# Altium schematic symbol library PIC32ETH.SchLib: 42 symbols
Pins are listed as number, name and electrical type; pins without a type are passive.

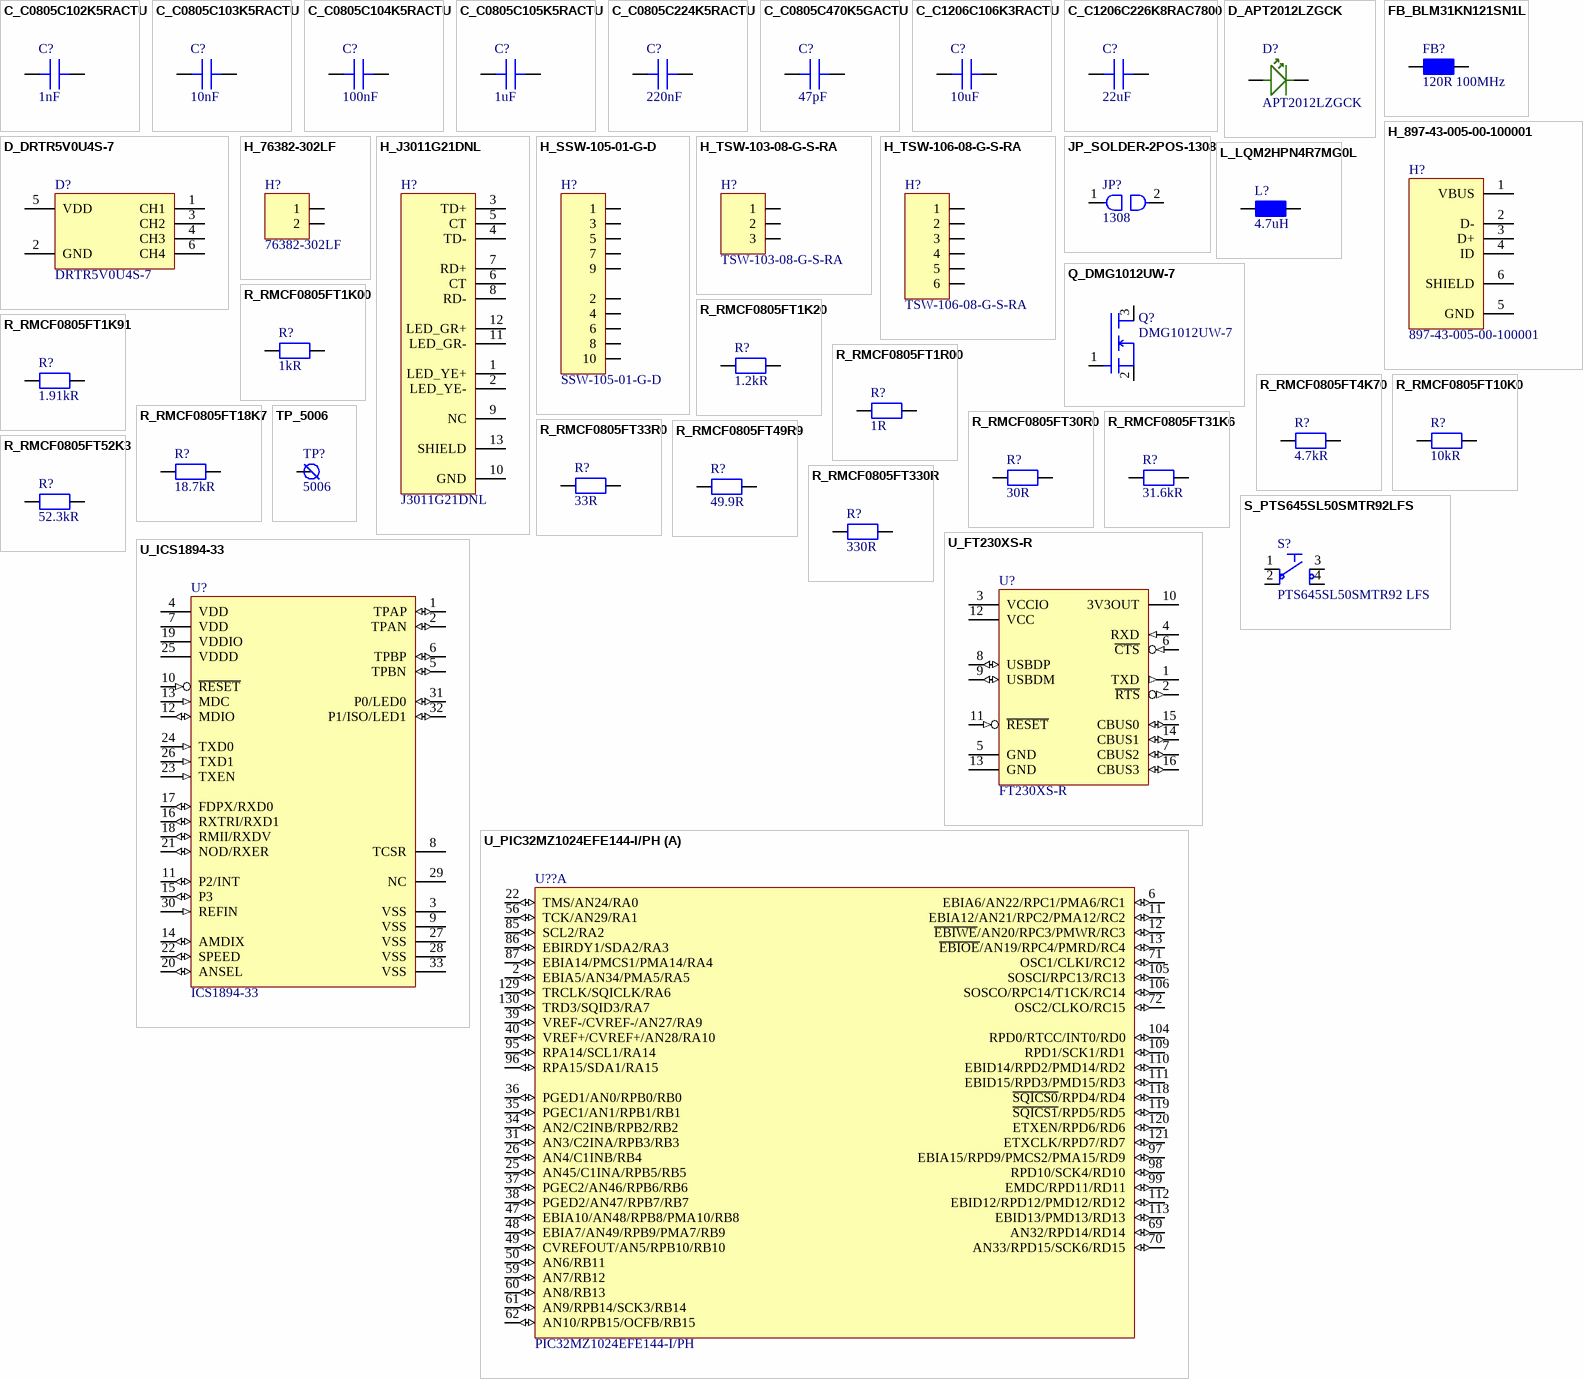
[diagram p0: symbols C_C0805C102K5RACTU to U_PIC32MZ1024EFE144-I/PH]

## C_C0805C102K5RACTU
designator C?, comment 1nF
C CERAMIC 1nF 50V 10% 2012; Manufacturer: Kemet; Part Number: C0805C102K5RACTU; Dielectric: X7R; Tolerance: +/-10%; Datasheet Url: https://content.kemet.com/datasheets/KEM_C1002_X7R_SMD.pdf; Mounting: SMT; Package: 2012; Price: 0.11; Price Currency: CHF; Supplier 1: Digi-Key; Capacitance: 1nF; Voltage: 50V; Supplier Part Number 1: 399-1147-1-ND; Esr: n/a; Pin Count: 2; Temperature Range: -55degC to 125degC
footprint C_CHIP2012N (Chip Capacitor, 2-Leads, Body 2.00x1.25mm, IPC Medium Density)
pins: 1, 1, 2, 2

## C_C0805C103K5RACTU
designator C?, comment 10nF
C CERAMIC 10nF 50V 10% 2012; Manufacturer: Kemet; Part Number: C0805C103K5RACTU; Dielectric: X7R; Tolerance: +/-10%; Datasheet Url: https://content.kemet.com/datasheets/KEM_C1002_X7R_SMD.pdf; Mounting: SMT; Package: 2012; Price: 0.18; Price Currency: CHF; Supplier 1: Digi-Key; Capacitance: 10nF; Voltage: 50V; Supplier Part Number 1: 399-1158-1-ND; Esr: n/a; Pin Count: 2; Temperature Range: -55degC to 125degC
footprint C_CHIP2012N (Chip Capacitor, 2-Leads, Body 2.00x1.25mm, IPC Medium Density)
pins: 1, 2

## C_C0805C104K5RACTU
designator C?, comment 100nF
C CERAMIC 100nF 50V 10% 2012; Manufacturer: Kemet; Part Number: C0805C104K5RACTU; Dielectric: X7R; Tolerance: +/-10%; Datasheet Url: https://content.kemet.com/datasheets/KEM_C1002_X7R_SMD.pdf; Mounting: SMT; Package: 2012; Price: 0.23; Price Currency: CHF; Supplier 1: Digi-Key; Capacitance: 100nF; Voltage: 50V; Supplier Part Number 1: 399-1170-1-ND; Esr: n/a; Pin Count: 2; Temperature Range: -55degC to 125degC
footprint C_CHIP2012N (Chip Capacitor, 2-Leads, Body 2.00x1.25mm, IPC Medium Density)
pins: 1, 2

## C_C0805C105K5RACTU
designator C?, comment 1uF
C CERAMIC 1uF 50V 10% 2012; Manufacturer: Kemet; Part Number: C0805C105K5RACTU; Dielectric: X7R; Tolerance: +/-10%; Datasheet Url: https://content.kemet.com/datasheets/KEM_C1002_X7R_SMD.pdf; Mounting: SMT; Package: 2012; Price: 0.32; Price Currency: CHF; Supplier 1: Digi-Key; Capacitance: 1uF; Voltage: 50V; Supplier Part Number 1: 399-7409-1-ND; Esr: n/a; Pin Count: 2; Temperature Range: -55degC to 125degC
footprint C_CHIP2012N (Chip Capacitor, 2-Leads, Body 2.00x1.25mm, IPC Medium Density)
pins: 1, 2

## C_C0805C224K5RACTU
designator C?, comment 220nF
C CERAMIC 220nF 50V 10% 2012; Manufacturer: Kemet; Part Number: C0805C224K5RACTU; Dielectric: X7R; Tolerance: +/-10%; Datasheet Url: https://content.kemet.com/datasheets/KEM_C1002_X7R_SMD.pdf; Mounting: SMT; Package: 2012; Price: 0.16; Price Currency: CHF; Supplier 1: Digi-Key; Capacitance: 220nF; Voltage: 50V; Supplier Part Number 1: 399-3491-1-ND; Esr: n/a; Pin Count: 2; Temperature Range: -55degC to 125degC
footprint C_CHIP2012N (Chip Capacitor, 2-Leads, Body 2.00x1.25mm, IPC Medium Density)
pins: 1, 2

## C_C0805C470K5GACTU
designator C?, comment 47pF
C CERAMIC 47pF 50V 10% 2012; Manufacturer: Kemet; Part Number: C0805C470K5GACTU; Dielectric: C0G; Tolerance: +/-10%; Datasheet Url: https://api.kemet.com/component-edge/download/datasheet/C0805C470K5GACTU.pdf; Mounting: SMT; Package: 2012; Price: 0.11; Price Currency: CHF; Supplier 1: Digi-Key; Capacitance: 47pF; Voltage: 50V; Supplier Part Number 1: 399-8081-1-ND; Esr: n/a; Pin Count: 2; Temperature Range: -55degC to 125degC
footprint C_CHIP2012N (Chip Capacitor, 2-Leads, Body 2.00x1.25mm, IPC Medium Density)
pins: 1, 2

## C_C1206C106K3RACTU
designator C?, comment 10uF
C CERAMIC 10uF 25V 10% 3216; Part Number: C1206C106K3RACTU; Manufacturer: Kemet; Dielectric: X7R; Tolerance: +/-10%; Package: 3216; Supplier 1: Digi-Key; Temperature Range: -55degC to 125degC; Datasheet Url: https://content.kemet.com/datasheets/KEM_C1002_X7R_SMD.pdf; Mounting: SMT; Price: 0.62; Price Currency: CHF; Note: *; Capacitance: 10uF; Voltage: 25V; Pin Count: 2; Esr: n/a; Supplier Part Number 1: 399-7442-1-ND
footprint C_CHIP3216N (Chip Capacitor, 2-Leads, Body 3.20x1.60mm, IPC Medium Density)
pins: 1, 2

## C_C1206C226K8RAC7800
designator C?, comment 22uF
C CERAMIC 22uF 10V 10% 3216; Part Number: C1206C226K8RAC7800; Manufacturer: Kemet; Dielectric: X7R; Tolerance: +/-10%; Package: 3216; Supplier 1: Digi-Key; Temperature Range: -55degC to 125degC; Datasheet Url: https://api.kemet.com/component-edge/download/datasheet/C1206C226K8RAC7800.pdf; Mounting: SMT; Price: 0.65; Price Currency: CHF; Note: *; Capacitance: 22uF; Voltage: 10V; Pin Count: 2; Esr: n/a; Supplier Part Number 1: 399-11947-1-ND
footprint C_CHIP3216N (Chip Capacitor, 2-Leads, Body 3.20x1.60mm, IPC Medium Density)
pins: 1, 2

## D_APT2012LZGCK
designator D?, comment APT2012LZGCK
D LED GREEN CLEAR 2.65V 2mA 2012; Manufacturer: Kingbright; Voltage Reverse: 5V; Current Reverse: 50uA; Power: 102.5mW; Datasheet URL: http://www.kingbrightusa.com/images/catalog/SPEC/APT2012LZGCK.pdf; Mounting: SMT; Package: 2012; Part Number: APT2012LZGCK; Price: 0.55; Price Currency: CHF; Supplier 1: Digi-Key; Supplier Part Number 1: 754-1939-1-ND; Temperature Range: -40degC to 85degC; Pin Count: 2; Current Forward: 2mA; Voltage Forward: 2.65V; Color: Green; Lens Transparency: Clear
footprint D_LEDCHIP2012N (Chip LED, 2-Leads, Body 3.20x1.60mm, IPC Medium Density)
pins: 1, 2

## D_DRTR5V0U4S-7
designator D?, comment DRTR5V0U4S-7
D TVS 5.5V 6V 200mW SOT-363; Manufacturer: Diodes Incorporated; Datasheet URL: https://www.diodes.com/assets/Datasheets/DRTR5V0U4S.pdf; Mounting: SMT; Package: SOT-363; Part Number: DRTR5V0U4S-7; Price: 0.39; Price Currency: CHF; Supplier 1: Digi-Key; Supplier Part Number 1: DRTR5V0U4S-7DICT-ND; Temperature Range: -65degC to 150degC; Pin Count: 6; Power: 200mW; Voltage Breakdown: 6V; Voltage Reverse Standoff: 5.5V
footprint D_SOT65P210X100-6N (SOT-23, 6-Leads, Body 2.15x2.10mm, Pitch 0.65mm, IPC Medium Density)
pins: 1 CH1, 2 GND (power), 3 CH2, 4 CH3, 5 VDD (power), 6 CH4

## FB_BLM31KN121SN1L
designator FB?, comment 120R 100MHz
FB 120R 100MHz 6A 3216; Manufacturer: Murata Electronics; Part Number: BLM31KN121SN1L; Resistance: 9mR; Datasheet Url: https://www.murata.com/en-us/products/productdata/8801529331742/ENFA0091.pdf; Mounting: SMT; Package: 3216; Price: 0.29; Price Currency: CHF; Supplier 1: Digi-Key; Supplier Part Number 1: 490-16524-1-ND; Temperature Range: -55degC to 125degC; Pin Count: 2; Current: 6A; Impedance: 120R 100MHz
footprint FB_CHIP3216N (Chip Ferrite Bead, 2-Leads, Body 3.20x1.60mm, IPC Medium Density)
pins: 1, 2

## H_897-43-005-00-100001
designator H?, comment 897-43-005-00-100001
H USB SOCKET 1PORT B-MINI ANGLE SMT; Manufacturer: Mill-Max Manufacturing Corp.; Mating Cycles: 5000; Current: 1A; Voltage: 30VAC; Ports: 1; Datasheet URL: http://www.farnell.com/datasheets/1734713.pdf?_ga=2.223747291.1932968036.1561574157-1154557334.1561574157&_gac=1.227804655.1561574157.CjwKCAjwr8zoBRA0EiwANmvpYNQHn877f_ACzLNOCpO9cVZHUYePGKu6J6mtcTAYQ9aGUVPIBV0ilRoC6_EQAvD_BwE; Mounting: SMT; Package: n/a; Part Number: 897-43-005-00-100001; Price: 1.21; Price Currency: CHF; Supplier 1: Digi-Key; Supplier Part Number 1: ED90341CT-ND; Pin Count: 6; Temperature Range: n/a; Header Type: Socket; Orientation: Angle; Usb Type: B-Mini
footprint H_897-43-005-00-100001
pins: 1 VBUS, 2 D-, 3 D+, 4 ID, 5 GND, 6 SHIELD

## H_76382-302LF
designator H?, comment 76382-302LF
H GENERAL HEADER 2POS 1ROW 2.54mm ANGLE THT; Manufacturer: Amphenol ICC; Current: 3A; Mating Cycles: 1000; Voltage: 1000V; Positions: 2; Rows: 1; Datasheet URL: https://cdn.amphenol-icc.com/media/wysiwyg/files/drawing/76382.pdf; Mounting: THT; Package: n/a; Part Number: 76382-302LF; Price: 0.71; Price Currency: CHF; Supplier 1: Digi-Key; Supplier Part Number 1: 609-1278-ND; Pin Count: 2; Temperature Range: -40degC to 125degC; Header Type: Header; Orientation: Angle; Spacing: 2.54mm
footprint H_76382-302LF (CONN HEADER R/A 2POS 2.54MM)
pins: 1, 2

## H_J3011G21DNL
designator H?, comment J3011G21DNL
H RJ45 SOCKET 1PORT ANGLE SMT; Manufacturer: Pulse; Ports: 1; Part Number: J3011G21DNL; Price Currency: CHF; Current: n/a; Datasheet URL: https://productfinder.pulseeng.com/doc_type/WEB301/doc_num/J409/doc_part/J409.pdf; Mating Cycles: n/a; Mounting: SMT; Package: n/a; Pin Count: 13; Price: 8.68; Temperature Range: 0°C to 70°C; Voltage: n/a; Header Type: Socket; Orientation: Angle; Supplier 1: Digi-Key; Supplier Part Number 1: 553-1491-ND
footprint H_J3011G21DNL (H RJ45 SOCKET 1PORT ANGLE SMT)
pins: 1 LED_YE+, 2 LED_YE-, 3 TD+, 4 TD-, 5 CT, 6 CT, 7 RD+, 8 RD-, 9 NC, 10 GND, 11 LED_GR-, 12 LED_GR+, 13 SHIELD

## H_SSW-105-01-G-D
designator H?, comment SSW-105-01-G-D
H GENERAL SOCKET 10POS 2ROW 2.54mm VERTICAL THT; Manufacturer: Samtec Inc.; Current: 5.7A; Voltage: 465VAC, 655VDC; Positions: 10; Rows: 2; Datasheet URL: http://suddendocs.samtec.com/catalog_english/ssq_th.pdf; Mounting: THT; Package: n/a; Part Number: SSW-105-01-G-D; Price: 1.33; Price Currency: CHF; Supplier 1: Digi-Key; Supplier Part Number 1: SAM1208-05-ND; Temperature Range: -55degC to 125degC; Pin Count: 10; Mating Cycles: n/a; Header Type: Socket; Orientation: Vertical; Spacing: 2.54mm
footprint H_SSW-105-01-G-D (CONN RCPT 10POS GOLD PCB)
pins: 1, 2, 3, 4, 5, 6, 7, 8, 9, 10

## H_TSW-103-08-G-S-RA
designator H?, comment TSW-103-08-G-S-RA
H GENERAL HEADER 3POS 1ROW 2.54mm ANGLE THT; Manufacturer: Samtec Inc.; Current: 5.7A; Voltage: 550VAC, 770VDC; Positions: 3; Rows: 1; Datasheet URL: http://suddendocs.samtec.com/catalog_english/tsw_th.pdf; Mounting: THT; Package: n/a; Part Number: TSW-103-08-G-S-RA; Price: 0.40; Price Currency: CHF; Supplier 1: Digi-Key; Supplier Part Number 1: SAM1039-03-ND; Temperature Range: -55degC to 125degC; Pin Count: 3; Mating Cycles: n/a; Header Type: Header; Orientation: Angle; Spacing: 2.54mm
footprint H_TSW-103-08-G-S-RA (CONN HEADER R/A 3POS 2.54MM)
pins: 1, 2, 3

## H_TSW-106-08-G-S-RA
designator H?, comment TSW-106-08-G-S-RA
H GENERAL HEADER 6POS 1ROW 2.54mm ANGLE THT; Manufacturer: Samtec Inc.; Current: 5.7A; Voltage: 550VAC, 770VDC; Positions: 6; Rows: 1; Datasheet URL: http://suddendocs.samtec.com/catalog_english/tsw_th.pdf; Mounting: THT; Package: n/a; Part Number: TSW-106-08-G-S-RA; Price: 0.68; Price Currency: CHF; Supplier 1: Digi-Key; Supplier Part Number 1: SAM1039-06-ND; Temperature Range: -55degC to 125degC; Pin Count: 6; Mating Cycles: n/a; Header Type: Header; Orientation: Angle; Spacing: 2.54mm
footprint H_TSW-106-08-G-S-RA (CONN HEADER R/A 6POS 2.54MM)
pins: 1, 2, 3, 4, 5, 6

## JP_SOLDER-2POS-1308
designator JP?, comment 1308  (no BOM)
JP SOLDER 2POS 1308; Datasheet Url: n/a; Manufacturer: n/a; Mounting: SMT; Package: 1308; Part Number: n/a; Price: n/a; Price Currency: n/a; Supplier 1: n/a; Supplier Part Number 1: n/a; Temperature Range: n/a; Pin Count: 2
footprint JP_SOLDER-2POS-1308 (JP SOLDER 2POS 1308)
pins: 1, 2

## L_LQM2HPN4R7MG0L
designator L?, comment 4.7uH
L CERAMIC 4.7uH 1.1A 138mR 2520; Manufacturer: Murata Electronics; Part Number: LQM2HPN4R7MG0L; Tolerance: +/-20%; Datasheet Url: https://search.murata.co.jp/Ceramy/image/img/P02/JELF243B-0019.pdf; Mounting: SMT; Package: 2520; Price: 0.28; Price Currency: CHF; Supplier 1: Digi-Key; Inductance: 4.7uH; Voltage: n/a; Supplier Part Number 1: 490-5116-1-ND; Pin Count: 2; Temperature Range: -55degC to 125degC; Current: 1.1A; Resistance: 138mR
footprint L_CHIP2520N (Chip Inductor, 2-Leads, Body 2.50x2.00mm, IPC Medium Density)
pins: 1, 2

## Q_DMG1012UW-7
designator Q?, comment DMG1012UW-7
Q MOSFET N-CH 20V 1A SOT-323; Manufacturer: Diodes Incorporated; Power: 290mW; Voltage Gate Source: +/-6V; Datasheet Url: https://www.diodes.com/assets/Datasheets/ds31859.pdf; Mounting: SMT; Package: SOT-323; Part Number: DMG1012UW-7; Price: 0.39; Price Currency: CHF; Supplier 1: Digi-Key; Supplier Part Number 1: DMG1012UW-7DICT-ND; Current Drain: 1A; Pin Count: 3; Temperature Range: -55degC to 150degC; Voltage Drain Source: 20V; Mosfet Type: N-CH
footprint Q_SOT65P210X100-3N (SOT23, 3-Leads, Body 2.15x2.10mm, Pitch 0.65mm, IPC Medium Density)
pins: 1 G, 2 S, 3 D

## R_RMCF0805FT1K00
designator R?, comment 1kR
R SMT 1kR 1% 125mW 2012; Manufacturer: Stackpole Electronics Inc; Part Number: RMCF0805FT1K00; Temperature Coefficient: 100ppm/degC; Tolerance: +/-1%; Voltage: 150V; Datasheet Url: https://www.seielect.com/catalog/sei-rmcf_rmcp.pdf; Mounting: SMT; Package: 2012; Price: 0.10; Price Currency: CHF; Supplier 1: Digi-Key; Resistance: 1kR; Supplier Part Number 1: RMCF0805FT1K00CT-ND; Temperature Range: -55degC to 155degC; Pin Count: 2; Power: 125mW
footprint R_CHIP2012N (Chip Resistor, 2-Leads, Body 2.00x1.25mm, IPC Medium Density)
pins: 1, 2

## R_RMCF0805FT1K20
designator R?, comment 1.2kR
R SMT 1.2kR 1% 125mW 2012; Manufacturer: Stackpole Electronics Inc; Part Number: RMCF0805FT1K20; Temperature Coefficient: 100ppm/degC; Tolerance: +/-1%; Voltage: 150V; Datasheet Url: https://www.seielect.com/catalog/sei-rmcf_rmcp.pdf; Mounting: SMT; Package: 2012; Price: 0.10; Price Currency: CHF; Supplier 1: Digi-Key; Resistance: 1.2kR; Supplier Part Number 1: RMCF0805FT1K20CT-ND; Temperature Range: -55degC to 155degC; Pin Count: 2; Power: 125mW
footprint R_CHIP2012N (Chip Resistor, 2-Leads, Body 2.00x1.25mm, IPC Medium Density)
pins: 1, 2

## R_RMCF0805FT1K91
designator R?, comment 1.91kR
R SMT 1.91kR 1% 125mW 2012; Manufacturer: Stackpole Electronics Inc; Part Number: RMCF0805FT1K91; Temperature Coefficient: 100ppm/degC; Tolerance: +/-1%; Voltage: 150V; Datasheet Url: https://www.seielect.com/catalog/sei-rmcf_rmcp.pdf; Mounting: SMT; Package: 2012; Price: 0.10; Price Currency: CHF; Supplier 1: Digi-Key; Resistance: 1.91kR; Power: 125mW; Supplier Part Number 1: 738-RMCF0805FT1K91CT-ND; Pin Count: 2; Temperature Range: -55degC to 155degC
footprint R_CHIP2012N (Chip Resistor, 2-Leads, Body 2.00x1.25mm, IPC Medium Density)
pins: 1, 2

## R_RMCF0805FT1R00
designator R?, comment 1R
R SMT 1R 1% 125mW 2012; Manufacturer: Stackpole Electronics Inc; Part Number: RMCF0805FT1R00; Temperature Coefficient: 100ppm/degC; Tolerance: +/-1%; Voltage: 150V; Datasheet Url: https://www.seielect.com/catalog/sei-rmcf_rmcp.pdf; Mounting: SMT; Package: 2012; Price: 0.10; Price Currency: CHF; Supplier 1: Digi-Key; Resistance: 1R; Supplier Part Number 1: RMCF0805FT1R00CT-ND; Temperature Range: -55degC to 155degC; Pin Count: 2; Power: 125mW
footprint R_CHIP2012N (Chip Resistor, 2-Leads, Body 2.00x1.25mm, IPC Medium Density)
pins: 1, 2

## R_RMCF0805FT4K70
designator R?, comment 4.7kR
R SMT 4.7kR 1% 125mW 2012; Manufacturer: Stackpole Electronics Inc; Part Number: RMCF0805FT4K70; Temperature Coefficient: 100ppm/degC; Tolerance: +/-1%; Voltage: 150V; Datasheet Url: https://www.seielect.com/catalog/sei-rmcf_rmcp.pdf; Mounting: SMT; Package: 2012; Price: 0.10; Price Currency: CHF; Supplier 1: Digi-Key; Resistance: 4.7kR; Supplier Part Number 1: RMCF0805FT4K70CT-ND; Temperature Range: -55degC to 155degC; Pin Count: 2; Power: 125mW
footprint R_CHIP2012N (Chip Resistor, 2-Leads, Body 2.00x1.25mm, IPC Medium Density)
pins: 1, 2

## R_RMCF0805FT10K0
designator R?, comment 10kR
R SMT 10kR 1% 125mW 2012; Manufacturer: Stackpole Electronics Inc; Part Number: RMCF0805FT10K0; Temperature Coefficient: 100ppm/degC; Tolerance: +/-1%; Voltage: 150V; Datasheet Url: https://www.seielect.com/catalog/sei-rmcf_rmcp.pdf; Mounting: SMT; Package: 2012; Price: 0.10; Price Currency: CHF; Supplier 1: Digi-Key; Resistance: 10kR; Power: 125mW; Supplier Part Number 1: RMCF0805FT10K0CT-ND; Pin Count: 2; Temperature Range: -55degC to 155degC
footprint R_CHIP2012N (Chip Resistor, 2-Leads, Body 2.00x1.25mm, IPC Medium Density)
pins: 1, 2

## R_RMCF0805FT18K7
designator R?, comment 18.7kR
R SMT 18.7kR 1% 125mW 2012; Manufacturer: Stackpole Electronics Inc; Part Number: RMCF0805FT18K7; Temperature Coefficient: 100ppm/degC; Tolerance: +/-1%; Voltage: 150V; Datasheet Url: https://www.seielect.com/catalog/sei-rmcf_rmcp.pdf; Mounting: SMT; Package: 2012; Price: 0.10; Price Currency: CHF; Supplier 1: Digi-Key; Resistance: 18.7kR; Power: 125mW; Supplier Part Number 1: RMCF0805FT18K7CT-ND; Pin Count: 2; Temperature Range: -55degC to 155degC
footprint R_CHIP2012N (Chip Resistor, 2-Leads, Body 2.00x1.25mm, IPC Medium Density)
pins: 1, 2

## R_RMCF0805FT30R0
designator R?, comment 30R
R SMT 30R 1% 125mW 2012; Manufacturer: Stackpole Electronics Inc; Part Number: RMCF0805FT30R0; Temperature Coefficient: 100ppm/degC; Tolerance: +/-1%; Voltage: 150V; Datasheet Url: https://www.seielect.com/catalog/sei-rmcf_rmcp.pdf; Mounting: SMT; Package: 2012; Price: 0.10; Price Currency: CHF; Supplier 1: Digi-Key; Resistance: 30R; Supplier Part Number 1: RMCF0805FT30R0CT-ND; Temperature Range: -55degC to 155degC; Pin Count: 2; Power: 125mW
footprint R_CHIP2012N (Chip Resistor, 2-Leads, Body 2.00x1.25mm, IPC Medium Density)
pins: 1, 2

## R_RMCF0805FT31K6
designator R?, comment 31.6kR
R SMT 31.6kR 1% 125mW 2012; Manufacturer: Stackpole Electronics Inc; Part Number: RMCF0805FT31K6; Temperature Coefficient: 100ppm/degC; Tolerance: +/-1%; Voltage: 150V; Datasheet Url: https://www.seielect.com/catalog/sei-rmcf_rmcp.pdf; Mounting: SMT; Package: 2012; Price: 0.10; Price Currency: CHF; Supplier 1: Digi-Key; Resistance: 31.6kR; Supplier Part Number 1: RMCF0805FT31K6CT-ND; Temperature Range: -55degC to 155degC; Pin Count: 2; Power: 125mW
footprint R_CHIP2012N (Chip Resistor, 2-Leads, Body 2.00x1.25mm, IPC Medium Density)
pins: 1, 2

## R_RMCF0805FT33R0
designator R?, comment 33R
R SMT 33R 1% 125mW 2012; Manufacturer: Stackpole Electronics Inc; Part Number: RMCF0805FT33R0; Temperature Coefficient: 100ppm/degC; Tolerance: +/-1%; Voltage: 150V; Datasheet Url: https://www.seielect.com/catalog/sei-rmcf_rmcp.pdf; Mounting: SMT; Package: 2012; Price: 0.10; Price Currency: CHF; Supplier 1: Digi-Key; Resistance: 33R; Supplier Part Number 1: RMCF0805FT33R0CT-ND; Temperature Range: -55degC to 155degC; Pin Count: 2; Power: 125mW
footprint R_CHIP2012N (Chip Resistor, 2-Leads, Body 2.00x1.25mm, IPC Medium Density)
pins: 1, 2

## R_RMCF0805FT49R9
designator R?, comment 49.9R
R SMT 49.9R 1% 125mW 2012; Manufacturer: Stackpole Electronics Inc; Part Number: RMCF0805FT49R9; Temperature Coefficient: 100ppm/degC; Tolerance: +/-1%; Voltage: 150V; Datasheet Url: https://www.seielect.com/catalog/sei-rmcf_rmcp.pdf; Mounting: SMT; Package: 2012; Price: 0.10; Price Currency: CHF; Supplier 1: Digi-Key; Resistance: 49.9R; Supplier Part Number 1: RMCF0805FT49R9CT-ND; Temperature Range: -55degC to 155degC; Pin Count: 2; Power: 125mW
footprint R_CHIP2012N (Chip Resistor, 2-Leads, Body 2.00x1.25mm, IPC Medium Density)
pins: 1, 2

## R_RMCF0805FT52K3
designator R?, comment 52.3kR
R SMT 52.3kR 1% 125mW 2012; Manufacturer: Stackpole Electronics Inc; Part Number: RMCF0805FT52K3; Temperature Coefficient: 100ppm/degC; Tolerance: +/-1%; Voltage: 150V; Datasheet Url: https://www.seielect.com/catalog/sei-rmcf_rmcp.pdf; Mounting: SMT; Package: 2012; Price: 0.10; Price Currency: CHF; Supplier 1: Digi-Key; Resistance: 52.3kR; Supplier Part Number 1: RMCF0805FT52K3CT-ND; Temperature Range: -55degC to 155degC; Pin Count: 2; Power: 125mW
footprint R_CHIP2012N (Chip Resistor, 2-Leads, Body 2.00x1.25mm, IPC Medium Density)
pins: 1, 2

## R_RMCF0805FT330R
designator R?, comment 330R
R SMT 330R 1% 125mW 2012; Manufacturer: Stackpole Electronics Inc; Part Number: RMCF0805FT330R; Temperature Coefficient: 100ppm/degC; Tolerance: +/-1%; Voltage: 150V; Datasheet Url: https://www.seielect.com/catalog/sei-rmcf_rmcp.pdf; Mounting: SMT; Package: 2012; Price: 0.10; Price Currency: CHF; Supplier 1: Digi-Key; Resistance: 330R; Supplier Part Number 1: RMCF0805FT330RCT-ND; Temperature Range: -55degC to 155degC; Pin Count: 2; Power: 125mW
footprint R_CHIP2012N (Chip Resistor, 2-Leads, Body 2.00x1.25mm, IPC Medium Density)
pins: 1, 2

## S_PTS645SL50SMTR92LFS
designator S?, comment PTS645SL50SMTR92 LFS
S TACTILE SPST-NO 12V 50mA SMT; Manufacturer: C&K; Cycles Mechanical: 100000; Datasheet Url: https://dznh3ojzb2azq.cloudfront.net/products/Tactile/PTS645/documents/datasheet.pdf; Mounting: SMT; Package: n/a; Part Number: PTS645SL50SMTR92 LFS; Price: 0.30; Price Currency: CHF; Supplier 1: Digi-Key; Pin Count: 4; Temperature Range: -20degC to 60degC; Supplier Part Number 1: CKN9088CT-ND; Current: 50mA; Cycles Electrical: n/a; Voltage: 12V; Switch Type: SPST-NO
footprint S_CHIPP620X620-4N (Chip, 4-Leads, Body 6.20x6.20mm, IPC Medium Density)
pins: 1, 2, 3, 4

## TP_5006
designator TP?, comment 5006
TP COMPACT BLACK THT; Manufacturer: Keystone Electronics; Datasheet Url: https://www.keyelco.com/userAssets/file/M65p56.pdf; Mounting: THT; Package: n/a; Part Number: 5006; Price: 0.35; Price Currency: CHF; Supplier 1: Digi-Key; Current: n/a; Pin Count: 1; Temperature Range: n/a; Supplier Part Number 1: 36-5006-ND; Voltage: n/a; Color: Black
footprint TP_5006 (Testpoint)
pins: 1 A

## U_FT230XS-R
designator U?, comment FT230XS-R
U TRANSCEIVER UART-USB 16-SSOP; Manufacturer: FTDI; Voltage Input: 3.3V to 5V; Datasheet Url: http://www.ftdichip.com/Support/Documents/DataSheets/ICs/DS_FT230X.pdf; Mounting: SMT; Package: 16-SSOP; Part Number: FT230XS-R; Price: 2.02; Price Currency: CHF; Supplier 1: Digi-Key; Pin Count: 16; Supplier Part Number 1: 768-1135-1-ND; Temperature Range: -40degC to 85degC; Transceiver Type: UART-USB
footprint U_TSOP64P600X135-16N (TSOP, 16-Leads, Body 4.90x3.91mm, Pitch 0.64mm, IPC Medium Density)
pins: 1 TXD (out), 2 ~{RTS} (out), 3 VCCIO (power), 4 RXD (in), 5 GND (power), 6 ~{CTS} (in), 7 CBUS2 (io), 8 USBDP (io), 9 USBDM (io), 10 3V3OUT (power), 11 ~{RESET} (in), 12 VCC (power), 13 GND (power), 14 CBUS1 (io), 15 CBUS0 (io), 16 CBUS3 (io)

## U_ICS1894-33
designator U?, comment ICS1894-33
U TRANSCEIVER RMII-ETHERNET 32-QFN; Manufacturer: Renesas; Voltage Input: 3.3V; Datasheet Url: https://www.mouser.ch/datasheet/2/698/REN_1894_33_DST_20120301-1711194.pdf; Mounting: SMT; Package: 32-QFN; Part Number: ICS1894-33; Price: 4.81; Price Currency: CHF; Supplier 1: Mouser; Supplier Part Number 1: 972-1894K-33LF; Temperature Range: 0degC to 70degC; Pin Count: 33; Transceiver Type: RMII-Ethernet
footprint U_QFN50P500X500X100-HS-33N (QFN, 32-Leads, Body 5.00x5.00mm, Pitch 0.50mm, Thermal Pad 3.15x3.15mm, IPC Medium Density)
pins: 1 TPAP (io), 2 TPAN (io), 3 VSS (power), 4 VDD (power), 5 TPBN (io), 6 TPBP (io), 7 VDD (power), 8 TCSR, 9 VSS (power), 10 ~{RESET} (in), 11 P2/INT (io), 12 MDIO (io), 13 MDC (in), 14 AMDIX (io), 15 P3 (io), 16 RXTRI/RXD1 (io), 17 FDPX/RXD0 (io), 18 RMII/RXDV (io), 19 VDDIO (power), 20 ANSEL (io), 21 NOD/RXER (io), 22 SPEED (io), 23 TXEN (in), 24 TXD0 (in), 25 VDDD (power), 26 TXD1 (in), 27 VSS (power), 28 VSS (power), 29 NC, 30 REFIN (in), 31 P0/LED0 (io), 32 P1/ISO/LED1 (io), 33 VSS (power)

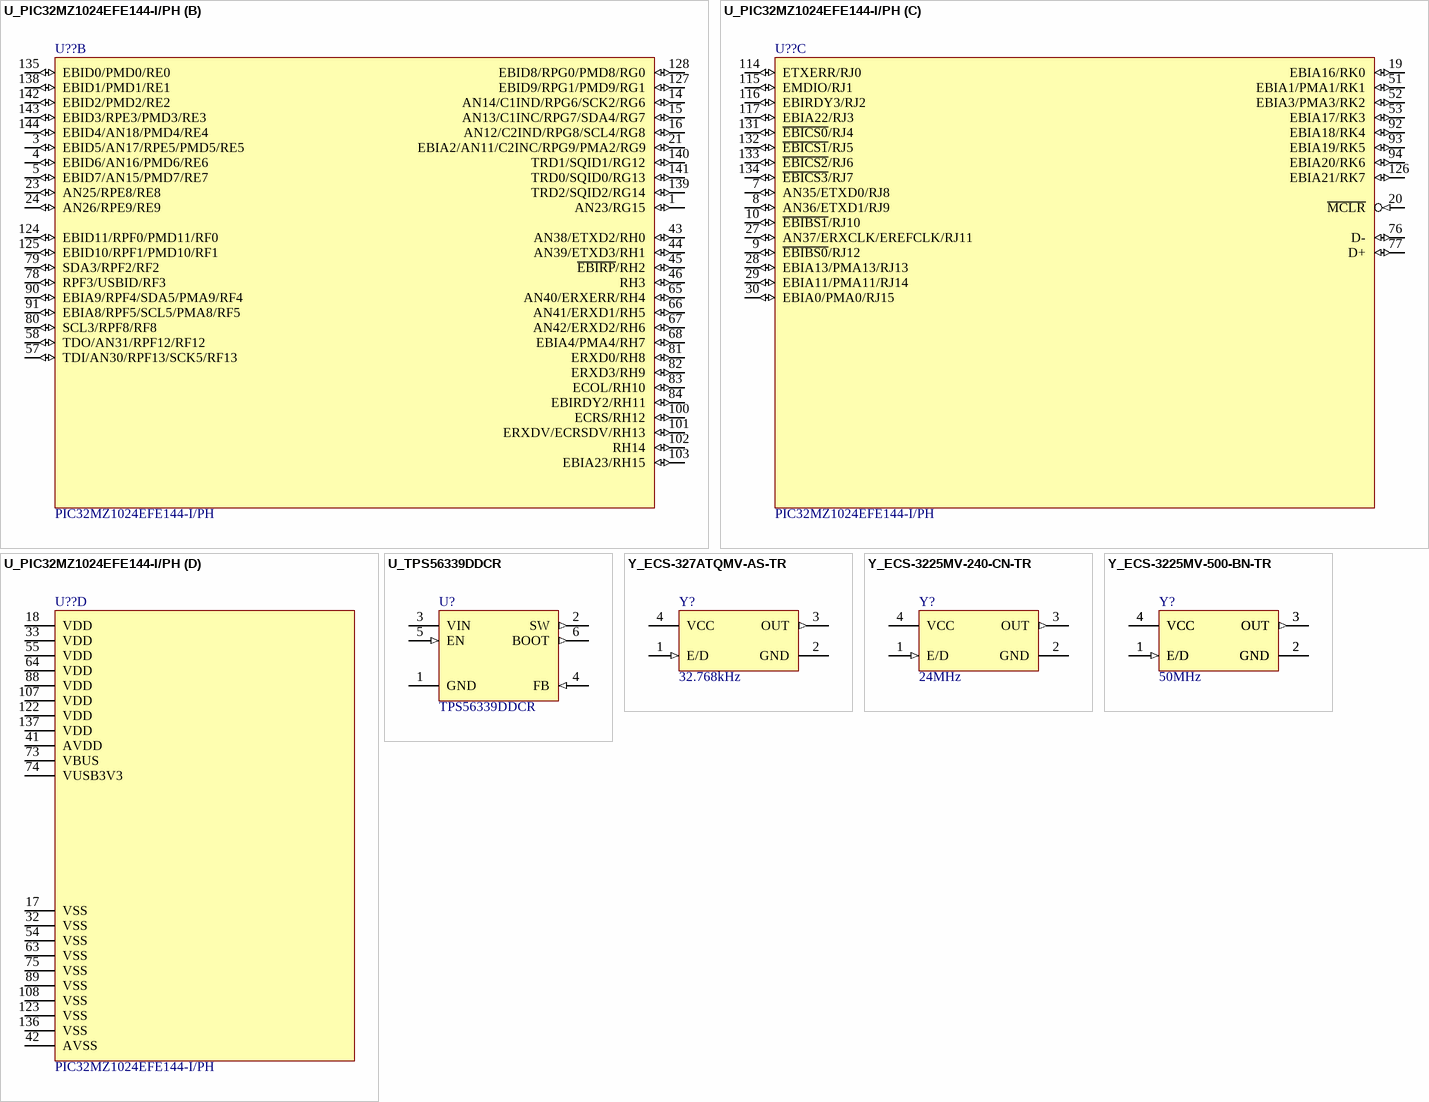
[diagram p1: symbols U_PIC32MZ1024EFE144-I/PH to Y_ECS-3225MV-500-BN-TR]

## U_PIC32MZ1024EFE144-I/PH
designator U??, comment PIC32MZ1024EFE144-I/PH
U MCU 32BIT 1MB 144-TQFP; Manufacturer: Microchip Technology; Bit Count: 32; Voltage Input: 2.1V to 3.6V; Current Output: 5mA; Datasheet Url: https://www.mouser.ch/datasheet/2/268/mchp_s_a0007771640_1-2274641.pdf; Mounting: SMT; Package: 144-TQFP; Part Number: PIC32MZ1024EFE144-I/PH; Price: 13.12; Price Currency: CHF; Supplier 1: Mouser; Pin Count: 144; Supplier Part Number 1: 579-MZ1024EFE144IPH; Temperature Range: -40degC to 85degC; Memory Size: 1MB
footprint U_QFP40P1800X1800X120-144N (QFP, 144-Leads, Body 18.00x18.00mm, Pitch 0.40mm, IPC Medium Density)
part A pins: 2 EBIA5/AN34/PMA5/RA5 (io), 6 EBIA6/AN22/RPC1/PMA6/RC1 (io), 11 EBIA12/AN21/RPC2/PMA12/RC2 (io), 12 ~{EBIWE}/AN20/RPC3/PMWR/RC3 (io), 13 ~{EBIOE}/AN19/RPC4/PMRD/RC4 (io), 22 TMS/AN24/RA0 (io), 25 AN45/C1INA/RPB5/RB5 (io), 26 AN4/C1INB/RB4 (io), 31 AN3/C2INA/RPB3/RB3 (io), 34 AN2/C2INB/RPB2/RB2 (io), 35 PGEC1/AN1/RPB1/RB1 (io), 36 PGED1/AN0/RPB0/RB0 (io), 37 PGEC2/AN46/RPB6/RB6 (io), 38 PGED2/AN47/RPB7/RB7 (io), 39 VREF-/CVREF-/AN27/RA9 (io), 40 VREF+/CVREF+/AN28/RA10 (io), 47 EBIA10/AN48/RPB8/PMA10/RB8 (io), 48 EBIA7/AN49/RPB9/PMA7/RB9 (io), 49 CVREFOUT/AN5/RPB10/RB10 (io), 50 AN6/RB11 (io), 56 TCK/AN29/RA1 (io), 59 AN7/RB12 (io), 60 AN8/RB13 (io), 61 AN9/RPB14/SCK3/RB14 (io), 62 AN10/RPB15/OCFB/RB15 (io), 69 AN32/RPD14/RD14 (io), 70 AN33/RPD15/SCK6/RD15 (io), 71 OSC1/CLKI/RC12 (io), 72 OSC2/CLKO/RC15 (io), 85 SCL2/RA2 (io), 86 EBIRDY1/SDA2/RA3 (io), 87 EBIA14/PMCS1/PMA14/RA4 (io), 95 RPA14/SCL1/RA14 (io), 96 RPA15/SDA1/RA15 (io), 97 EBIA15/RPD9/PMCS2/PMA15/RD9 (io), 98 RPD10/SCK4/RD10 (io), 99 EMDC/RPD11/RD11 (io), 104 RPD0/RTCC/INT0/RD0 (io), 105 SOSCI/RPC13/RC13 (io), 106 SOSCO/RPC14/T1CK/RC14 (io), 109 RPD1/SCK1/RD1 (io), 110 EBID14/RPD2/PMD14/RD2 (io), 111 EBID15/RPD3/PMD15/RD3 (io), 112 EBID12/RPD12/PMD12/RD12 (io), 113 EBID13/PMD13/RD13 (io), 118 ~{SQICS0}/RPD4/RD4 (io), 119 ~{SQICS1}/RPD5/RD5 (io), 120 ETXEN/RPD6/RD6 (io), 121 ETXCLK/RPD7/RD7 (io), 129 TRCLK/SQICLK/RA6 (io), 130 TRD3/SQID3/RA7 (io)
part B pins: 1 AN23/RG15 (io), 3 EBID5/AN17/RPE5/PMD5/RE5 (io), 4 EBID6/AN16/PMD6/RE6 (io), 5 EBID7/AN15/PMD7/RE7 (io), 14 AN14/C1IND/RPG6/SCK2/RG6 (io), 15 AN13/C1INC/RPG7/SDA4/RG7 (io), 16 AN12/C2IND/RPG8/SCL4/RG8 (io), 21 EBIA2/AN11/C2INC/RPG9/PMA2/RG9 (io), 23 AN25/RPE8/RE8 (io), 24 AN26/RPE9/RE9 (io), 43 AN38/ETXD2/RH0 (io), 44 AN39/ETXD3/RH1 (io), 45 ~{EBIRP}/RH2 (io), 46 RH3 (io), 57 TDI/AN30/RPF13/SCK5/RF13 (io), 58 TDO/AN31/RPF12/RF12 (io), 65 AN40/ERXERR/RH4 (io), 66 AN41/ERXD1/RH5 (io), 67 AN42/ERXD2/RH6 (io), 68 EBIA4/PMA4/RH7 (io), 78 RPF3/USBID/RF3 (io), 79 SDA3/RPF2/RF2 (io), 80 SCL3/RPF8/RF8 (io), 81 ERXD0/RH8 (io), 82 ERXD3/RH9 (io), 83 ECOL/RH10 (io), 84 EBIRDY2/RH11 (io), 90 EBIA9/RPF4/SDA5/PMA9/RF4 (io), 91 EBIA8/RPF5/SCL5/PMA8/RF5 (io), 100 ECRS/RH12 (io), 101 ERXDV/ECRSDV/RH13 (io), 102 RH14 (io), 103 EBIA23/RH15 (io), 124 EBID11/RPF0/PMD11/RF0 (io), 125 EBID10/RPF1/PMD10/RF1 (io), 127 EBID9/RPG1/PMD9/RG1 (io), 128 EBID8/RPG0/PMD8/RG0 (io), 135 EBID0/PMD0/RE0 (io), 138 EBID1/PMD1/RE1 (io), 139 TRD2/SQID2/RG14 (io), 140 TRD1/SQID1/RG12 (io), 141 TRD0/SQID0/RG13 (io), 142 EBID2/PMD2/RE2 (io), 143 EBID3/RPE3/PMD3/RE3 (io), 144 EBID4/AN18/PMD4/RE4 (io)
part C pins: 7 AN35/ETXD0/RJ8 (io), 8 AN36/ETXD1/RJ9 (io), 9 ~{EBIBS0}/RJ12 (io), 10 ~{EBIBS1}/RJ10 (io), 19 EBIA16/RK0 (io), 20 ~{MCLR} (in), 27 AN37/ERXCLK/EREFCLK/RJ11 (io), 28 EBIA13/PMA13/RJ13 (io), 29 EBIA11/PMA11/RJ14 (io), 30 EBIA0/PMA0/RJ15 (io), 51 EBIA1/PMA1/RK1 (io), 52 EBIA3/PMA3/RK2 (io), 53 EBIA17/RK3 (io), 76 D- (io), 77 D+ (io), 92 EBIA18/RK4 (io), 93 EBIA19/RK5 (io), 94 EBIA20/RK6 (io), 114 ETXERR/RJ0 (io), 115 EMDIO/RJ1 (io), 116 EBIRDY3/RJ2 (io), 117 EBIA22/RJ3 (io), 126 EBIA21/RK7 (io), 131 ~{EBICS0}/RJ4 (io), 132 ~{EBICS1}/RJ5 (io), 133 ~{EBICS2}/RJ6 (io), 134 ~{EBICS3}/RJ7 (io)
part D pins: 17 VSS (power), 18 VDD (power), 32 VSS (power), 33 VDD (power), 41 AVDD (power), 42 AVSS (power), 54 VSS (power), 55 VDD (power), 63 VSS (power), 64 VDD (power), 73 VBUS (power), 74 VUSB3V3 (power), 75 VSS (power), 88 VDD (power), 89 VSS (power), 107 VDD (power), 108 VSS (power), 122 VDD (power), 123 VSS (power), 136 VSS (power), 137 VDD (power)

## U_TPS56339DDCR
designator U?, comment TPS56339DDCR
U REGULATOR BUCK 0.8V TO 16V 3A SOT-23-6; Manufacturer: Texas Instruments; Voltage Input: 4.5V to 24V; Datasheet Url: https://www.ti.com/lit/ds/symlink/tps56339.pdf?ts=1604352153609&ref_url=https%253A%252F%252Fwww.ti.com%252Fproduct%252FTPS56339%253FkeyMatch%253DTPS56%2526tisearch%253DSearch-EN-everything%2526usecase%253DGPN; Mounting: SMT; Package: SOT-23-6; Part Number: TPS56339DDCR; Price: 1.14; Price Currency: CHF; Supplier 1: Digi-Key; Pin Count: 6; Supplier Part Number 1: 296-53568-1-ND; Temperature Range: -40degC to 125degC; Current Output: 3A; Regulator Type: Buck; Voltage Output: 0.8V to 16V
footprint U_SOT95P280X145-6N (SOT23, 6-Leads, Body 2.90x2.80mm, Pitch 0.95mm, IPC Medium Density)
pins: 1 GND (power), 2 SW (out), 3 VIN (power), 4 FB (in), 5 EN (in), 6 BOOT (out)

## Y_ECS-327ATQMV-AS-TR
designator Y?, comment 32.768kHz
Y OSCILLATOR 32.768kHz CMOS SMT; Manufacturer: ECS Inc.; Part Number: ECS-327ATQMV-AS-TR; Current: 200uA; Voltage: 1.62V to 3.63V; Price Currency: CHF; Datasheet Url: https://ecsxtal.com/store/pdf/ECS-327ATQMV.pdf; Mounting: SMT; Package: n/a; Pin Count: 4; Price: 1.27; Temperature Range: -40degC to 125degC; Frequency: 32.768kHz; Supplier 1: Digi-Key; Supplier Part Number 1: XC2826CT-ND; Technology: CMOS
footprint Y_CHIPP320X250-4N (Chip Oscillator , 4-Leads, Body 3.20x2.50mm, IPC Medium Density)
pins: 1 E/D (in), 2 GND (power), 3 OUT (out), 4 VCC (power)

## Y_ECS-3225MV-240-CN-TR
designator Y?, comment 24MHz
Y OSCILLATOR 24MHz HCMOS SMT; Manufacturer: ECS Inc.; Part Number: ECS-3225MV-240-CN-TR; Current: 4mA; Voltage: 1.62V to 3.63V; Price Currency: CHF; Datasheet Url: https://ecsxtal.com/store/pdf/ECS-3225MV.pdf; Mounting: SMT; Package: n/a; Pin Count: 4; Price: 1.20; Temperature Range: -40degC to 85degC; Frequency: 24MHz; Supplier 1: Digi-Key; Supplier Part Number 1: XC2884CT-ND; Technology: HCMOS
footprint Y_CHIPP320X250-4N (Chip Oscillator , 4-Leads, Body 3.20x2.50mm, IPC Medium Density)
pins: 1 E/D (in), 2 GND (power), 3 OUT (out), 4 VCC (power)

## Y_ECS-3225MV-500-BN-TR
designator Y?, comment 50MHz
Y OSCILLATOR 50MHz HCMOS SMT; Manufacturer: ECS Inc.; Part Number: ECS-3225MV-500-BN-TR; Current: 5mA; Voltage: 1.62V to 3.63V; Price Currency: CHF; Datasheet Url: https://ecsxtal.com/store/pdf/ECS-3225MV.pdf; Mounting: SMT; Package: n/a; Pin Count: 4; Price: 1.21; Temperature Range: -40degC to 85degC; Frequency: 50MHz; Supplier 1: Digi-Key; Supplier Part Number 1: XC2881CT-ND; Technology: HCMOS
footprint Y_CHIPP320X250-4N (Chip Oscillator , 4-Leads, Body 3.20x2.50mm, IPC Medium Density)
pins: 1 E/D (in), 1 E/D (in), 2 GND (power), 2 GND (power), 3 OUT (out), 3 OUT (out), 4 VCC (power), 4 VCC (power)